# EAGLE library part AD8564ARZ (library CRD)
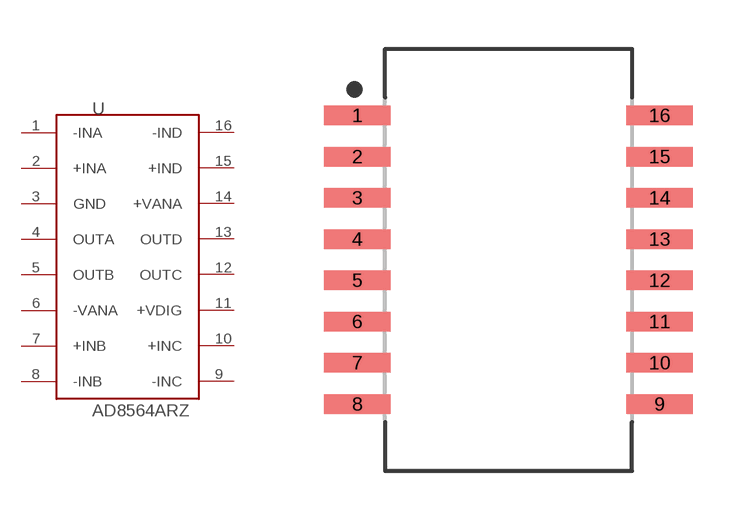
[diagram p0: symbol with the pads of SOIC127P1032X265-16N; footprint SOIC127P1032X265-16N]

Designator prefix U

## AD8564ARZ  [SOIC127P1032X265-16N]
1  -INA
2  +INA
3  GND
4  OUTA
5  OUTB
6  -VANA
7  +INB
8  -INB
9  -INC
10  +INC
11  +VDIG
12  OUTC
13  OUTD
14  +VANA
15  +IND
16  -IND

## Footprint SOIC127P1032X265-16N (pad centres in mm)
16-SOIC, 1.27 mm pitch, 10.32 mm span, 12.80 X 7.50 X 2.65 mm body 16-pin SOIC package with 1.27 mm pitch, 10.32 mm span with body size 12.80 X 7.50 X 2.65 mm
smd 2.052 x 0.602: 1 -4.654,4.445; 2 -4.654,3.175; 3 -4.654,1.905; 4 -4.654,0.635; 5 -4.654,-0.635; 6 -4.654,-1.905; 7 -4.654,-3.175; 8 -4.654,-4.445; 9 4.654,-4.445; 10 4.654,-3.175; 11 4.654,-1.905; 12 4.654,-0.635; 13 4.654,0.635; 14 4.654,1.905; 15 4.654,3.175; 16 4.654,4.445